# EAGLE library part 74HC595D_BJ_ (library 74HC595D_BJ_)
Logic Gates CMOS 8-Bit Shift Register/Latch Source: Datasheet <https://componentsearchengine.com/Datasheets/1/74HC595D(BJ).pdf>
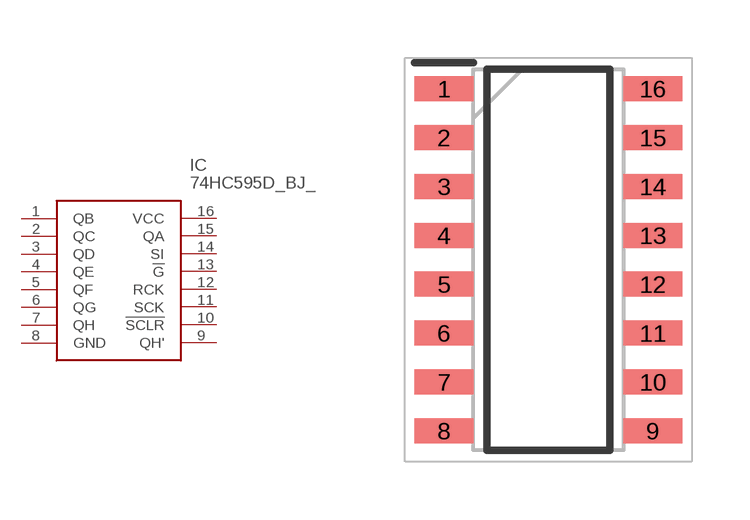
[diagram p0: symbol with the pads of SOIC127P600X175-16N; footprint SOIC127P600X175-16N]

Designator prefix IC

## 74HC595D_BJ_ (Description: Logic Gates CMOS 8-Bit Shift Register/Latch; Height: 1.75mm; Manufacturer_Name: Toshiba; Manufacturer_Part_Number: 74HC595D(BJ); Mouser_Part_Number: 757-74HC595DBJ; Mouser_Price-Stock: https://www.mouser.co.uk/ProductDetail/Toshiba/74HC595DBJ?qs=T%2FywbITssnTkqd02WdSNRg%3D%3D)  [SOIC127P600X175-16N]
1  QB
2  QC
3  QD
4  QE
5  QF
6  QG
7  QH
8  GND
9  QH'
10  !SCLR
11  SCK
12  RCK
13  !G
14  SI
15  QA
16  VCC

## Footprint SOIC127P600X175-16N (pad centres in mm)
P-SOP16-0410-1.27-005
smd 1.525 x 0.65: 1 -2.712,4.445; 2 -2.712,3.175; 3 -2.712,1.905; 4 -2.712,0.635; 5 -2.712,-0.635; 6 -2.712,-1.905; 7 -2.712,-3.175; 8 -2.712,-4.445; 9 2.712,-4.445; 10 2.712,-3.175; 11 2.712,-1.905; 12 2.712,-0.635; 13 2.712,0.635; 14 2.712,1.905; 15 2.712,3.175; 16 2.712,4.445